# Altium schematic symbol library Linear Technology Power Management Energy Harvesting.SchLib: 169 symbols (part 2 of 13)
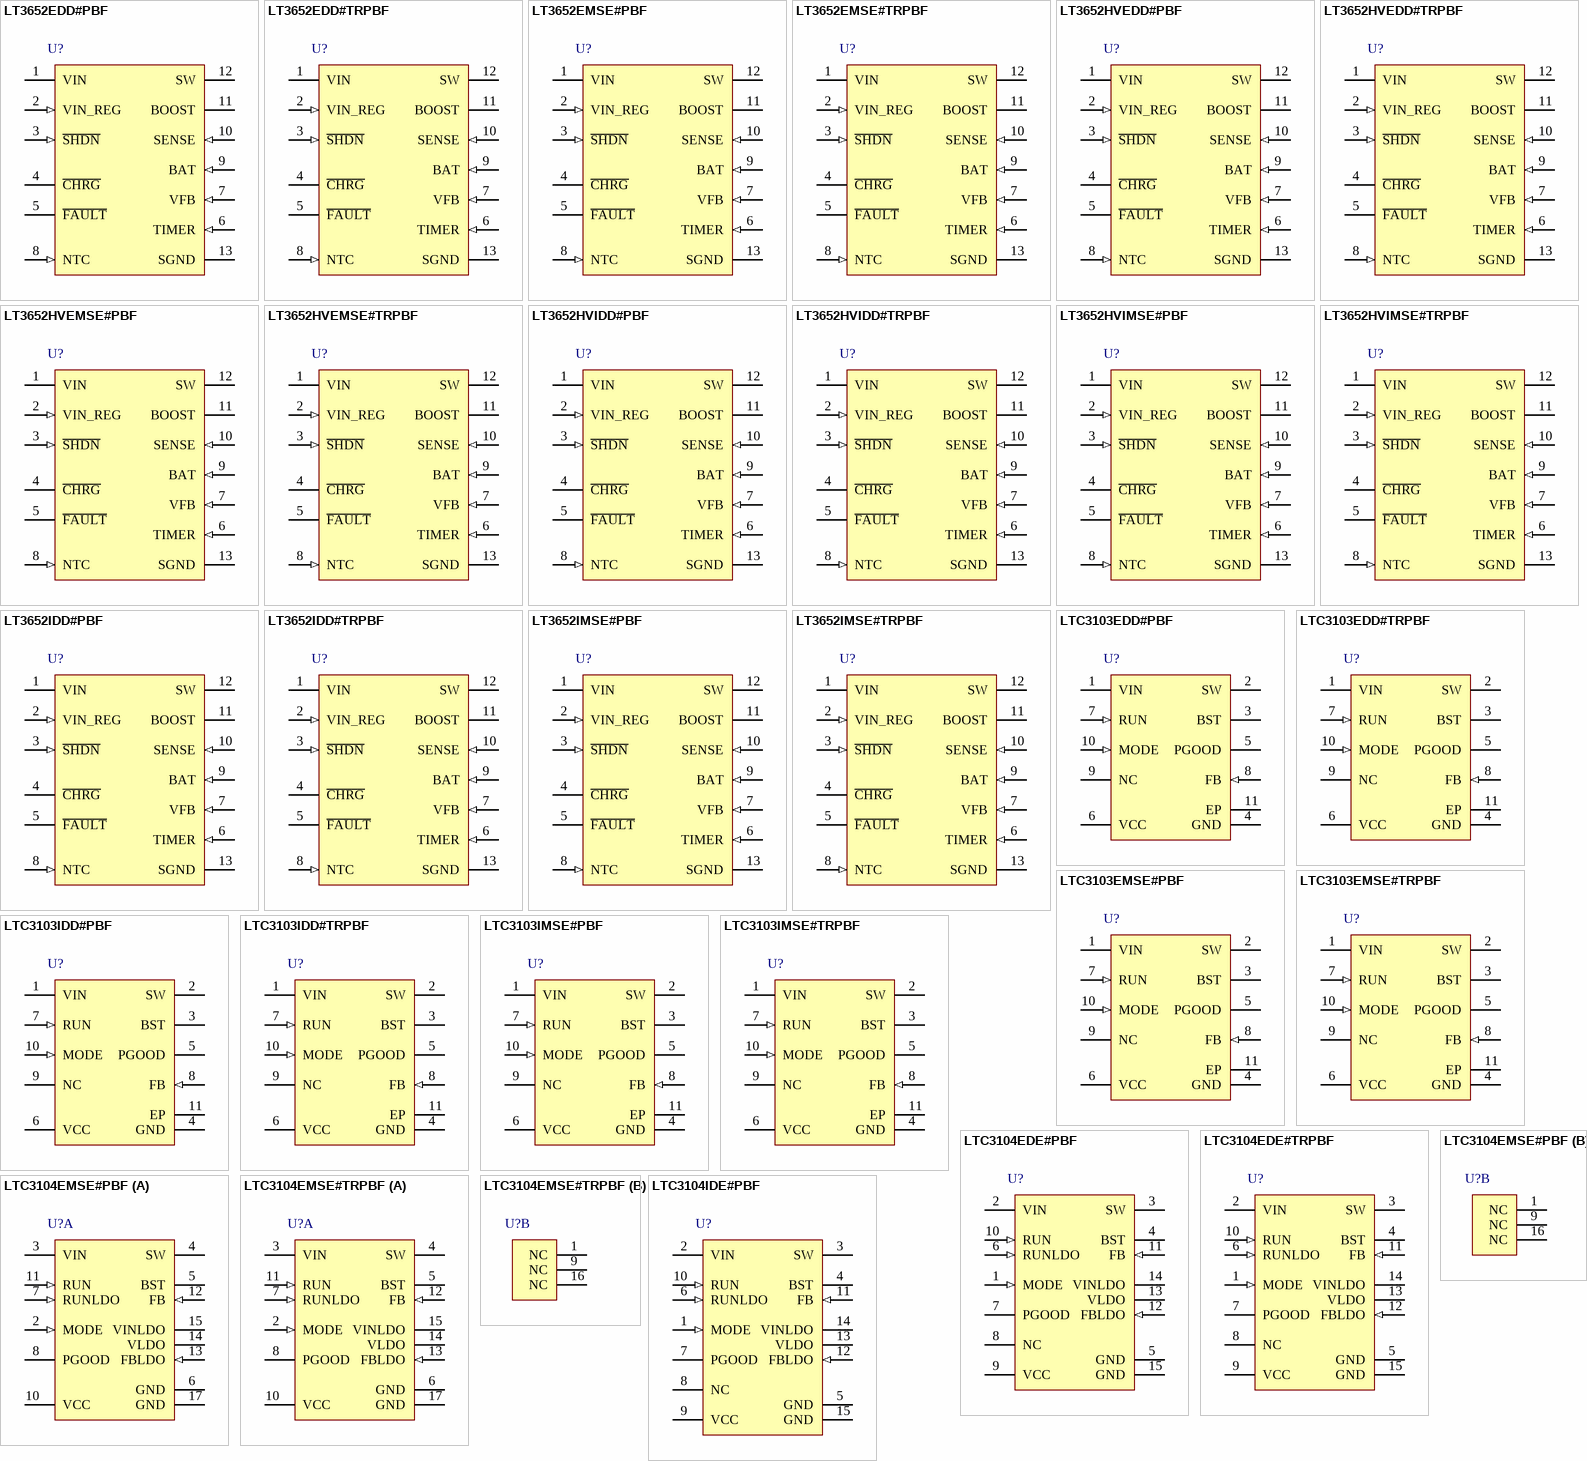
[diagram p6: symbols LT3652EDD#PBF to LTC3104IDE#PBF]

## LT3652HVIMSE#TRPBF
designator U?
Power Tracking 2 A Battery Charger, 12-pin SOP (MSE-12-EDP), -40 to 125 degC, Pb-Free, Tape and Reel; Manufacturer: Linear Technology; PartNumber: LT3652HVIMSE#TRPBF; Energy Source: Solar; Number of Outputs: 1; Topology: Buck; Vin Max(V): 34; Vin Min(V): 4.95; DatasheetVersion: Rev. A; PackageVersion: Rev. G, 05/2013; PackageReference: MSE-12-EDP; PackageDescription: 12-Pin Plastic MSOP, Exposed Die Pad, Body 4.039 x 3 mm, Pitch 0.65 mm; Supplier 1: Digi-Key; Supplier Part Number 1: LT3652HVIMSE#TRPBF-ND; Packing: Tape and Reel; RoHS: TRUE; Mounting Technology: Surface Mount; ComponentLink1Description: Manufacturer URL; ComponentLink1URL: http://www.linear.com/; ComponentLink2Description: Datasheet; ComponentLink2URL: http://cds.linear.com/docs/en/datasheet/3652hvfa.pdf; ComponentLink3Description: Package Specification; ComponentLink3URL: http://cds.linear.com/docs/en/packaging/05081666_G_MSE12.pdf
footprint LT-MSE-12-EDP_N (SOP, 12-Leads, Body 4.1x3.1mm, Pitch 0.65mm, Thermal Pad 2.95x1.76mm, IPC Medium Density)
footprint LT-MSE-12-EDP_L (SOP, 12-Leads, Body 4.1x3.1mm, Pitch 0.65mm, Thermal Pad 2.95x1.76mm, IPC High Density)
footprint LT-MSE-12-EDP_M (SOP, 12-Leads, Body 4.1x3.1mm, Pitch 0.65mm, Thermal Pad 2.95x1.76mm, IPC Low Density)
pins: 1 VIN (power) "Charger Input Supply. VIN operating range is 4.95V to 32V. VIN must be 3.3V greater than the programmed output battery float voltage (VBAT(FLT)) for reliable start-up. (VIN - VBAT(FLT)) >= 0.75V is the minimum operating (See Datasheet)", 2 VIN_REG (in) "Input Voltage Regulation Reference. Maximum charge current is reduced when this pin is below 2.7V. Connecting a resistor divider from VIN to this pin enables programming of minimum operational VIN voltage. This is typically (See Datasheet)", 3 ~{SHDN} (in) "Precision Threshold Shutdown Pin. The enable threshold is 1.2V (rising), with 120mV of input hysteresis. When in shutdown mode, all charging functions are disabled. The precision threshold allows use of the S\H\D\N\ pin to (See Datasheet)", 4 ~{CHRG} (hiz) "Open-Collector Charger Status Output; typically pulled up through a resistor to a reference voltage. This status pin can be pulled up to voltages as high as VIN when disabled, and can sink currents up to 10mA when enabled. (See Datasheet)", 5 ~{FAULT} (hiz) "Open-Collector Charger Status Output; typically pulled up through a resistor to a reference voltage. This status pin can be pulled up to voltages as high as VIN when disabled, and can sink currents up to 10mA when enabled. (See Datasheet)", 6 TIMER (in) "End-Of-Cycle Timer Programming Pin. If a timer-based charge termination is desired, connect a capacitor from this pin to ground. Full charge end-of-cycle time (in hours) is programmed with this capacitor following the (See Datasheet)", 7 VFB (in) "Battery Float Voltage Feedback Reference. The charge function operates to achieve a final float voltage of 3.3V on this pin. Output battery float voltage (VBAT(FLT)) is programmed using a resistor divider. VBAT(FLT) can be (See Datasheet)", 8 NTC (in) "Battery Temperature Monitor Pin. This pin is the input to the NTC (Negative Temperature Coefficient) thermistor temperature monitoring circuit. This function is enabled by connecting a 10kohm, B = 3380 NTC thermistor from (See Datasheet)", 9 BAT (in) "Charger Output Monitor Pin. Connect a 10uF decoupling capacitance (CBAT) to ground. Depending on application requirements, larger value decoupling capacitors may be required. The charge function operates to achieve the (See Datasheet)", 10 SENSE (in) "Charge Current Sense Pin. Connect the inductor sense resistor (RSENSE) from the SENSE pin to the BAT pin. The voltage across this resistor sets the average charge current. The maximum charge current (ICHG(MAX)) corresponds (See Datasheet)", 11 BOOST (power) "Bootstrapped Supply Rail for Switch Drive. This pin facilitates saturation of the switch transistor. Connect a 1uF or greater capacitor from the BOOST pin to the SW pin. Operating range of this pin is 0V to 8.5V, referenced (See Datasheet)", 12 SW (power) "Switch Output Pin. This pin is the output of the charger switch, and corresponds to the emitter of the switch transistor. When enabled, the switch shorts the SW pin to the VIN supply. The drive circuitry for this switch is (See Datasheet)", 13 SGND (power) "Ground Reference and Backside Exposed Lead Frame Thermal Connection. Solder the exposed lead frame to the PCB ground plane."

## LT3652IDD#PBF
designator U?
Power Tracking 2 A Battery Charger for Solar Power, 12-pin SON (DD-12), -40 to 125 degC, Pb-Free; Manufacturer: Linear Technology; PartNumber: LT3652IDD#PBF; Number of Outputs: 1; Vin Max(V): 32; Vin Min(V): 4.95; DatasheetVersion: Rev. D; PackageVersion: Rev. A, 06/2010; PackageReference: DD-12; PackageDescription: 12-Pin Plastic DFN, Body 3 x 3 mm, Pitch 0.45 mm; Supplier 1: Digi-Key; Supplier Part Number 1: LT3652IDD#PBF-ND; Supplier 2: Farnell; Supplier Part Number 2: 2292998; Supplier 3: Newark; Supplier Part Number 3: 13T8472; Energy Source: Solar; RoHS: TRUE; Topology: Battery Charger; Mounting Technology: Surface Mount; ComponentLink1Description: Manufacturer URL; ComponentLink1URL: http://www.linear.com/; ComponentLink2Description: Datasheet; ComponentLink2URL: http://cds.linear.com/docs/en/datasheet/3652fd.pdf; ComponentLink3Description: Package Specification; ComponentLink3URL: http://cds.linear.com/docs/en/packaging/DFN_12_05-08-1725.pdf
footprint LT-DD-12_V (SON, 12-Leads, Body 3x3mm, Pitch 0.45mm, Thermal Pad 2.38x1.65mm)
pins: 1 VIN (power) "Charger Input Supply. VIN operating range is 4.95V to 32V. VIN must be 3.3V greater than the programmed output battery float voltage (VBAT(FLT)) for reliable start-up. (VIN - VBAT(FLT)) >= 0.75V is the minimum operating (See Datasheet)", 2 VIN_REG (in) "Input Voltage Regulation Reference. Maximum charge current is reduced when this pin is below 2.7V. Connecting a resistor divider from VIN to this pin enables programming of minimum operational VIN voltage. This is typically (See Datasheet)", 3 ~{SHDN} (in) "Precision Threshold Shutdown Pin. The enable threshold is 1.2V (rising), with 120mV of input hysteresis. When in shutdown mode, all charging functions are disabled. The precision threshold allows use of the S\H\D\N\ pin to (See Datasheet)", 4 ~{CHRG} (hiz) "Open-Collector Charger Status Output; typically pulled up through a resistor to a reference voltage. This status pin can be pulled up to voltages as high as VIN when disabled, and can sink currents up to 10mA when enabled. (See Datasheet)", 5 ~{FAULT} (hiz) "Open-Collector Charger Status Output; typically pulled up through a resistor to a reference voltage. This status pin can be pulled up to voltages as high as VIN when disabled, and can sink currents up to 10mA when enabled. (See Datasheet)", 6 TIMER (in) "End-Of-Cycle Timer Programming Pin. If a timer-based charge termination is desired, connect a capacitor from this pin to ground. Full charge end-of-cycle time (in hours) is programmed with this capacitor following the (See Datasheet)", 7 VFB (in) "Battery Float Voltage Feedback Reference. The charge function operates to achieve a final float voltage of 3.3V on this pin. Output battery float voltage (VBAT(FLT)) is programmed using a resistor divider. VBAT(FLT) can be (See Datasheet)", 8 NTC (in) "Battery Temperature Monitor Pin. This pin is the input to the NTC (Negative Temperature Coefficient) thermistor temperature monitoring circuit. This function is enabled by connecting a 10kohm, B = 3380 NTC thermistor from (See Datasheet)", 9 BAT (in) "Charger Output Monitor Pin. Connect a 10uF decoupling capacitance (CBAT) to ground. Depending on application requirements, larger value decoupling capacitors may be required. The charge function operates to achieve the (See Datasheet)", 10 SENSE (in) "Charge Current Sense Pin. Connect the inductor sense resistor (RSENSE) from the SENSE pin to the BAT pin. The voltage across this resistor sets the average charge current. The maximum charge current (ICHG(MAX)) corresponds (See Datasheet)", 11 BOOST (power) "Bootstrapped Supply Rail for Switch Drive. This pin facilitates saturation of the switch transistor. Connect a 1uF or greater capacitor from the BOOST pin to the SW pin. Operating range of this pin is 0V to 8.5V, referenced (See Datasheet)", 12 SW (power) "Switch Output Pin. This pin is the output of the charger switch, and corresponds to the emitter of the switch transistor. When enabled, the switch shorts the SW pin to the VIN supply. The drive circuitry for this switch is (See Datasheet)", 13 SGND (power) "Ground Reference and Backside Exposed Lead Frame Thermal Connection. Solder the exposed lead frame to the PCB ground plane."

## LT3652IDD#TRPBF
designator U?
Power Tracking 2 A Battery Charger for Solar Power, 12-pin SON (DD-12), -40 to 125 degC, Pb-Free, Tape and Reel; Manufacturer: Linear Technology; PartNumber: LT3652IDD#TRPBF; Number of Outputs: 1; Vin Max(V): 32; Vin Min(V): 4.95; DatasheetVersion: Rev. D; PackageVersion: Rev. A, 06/2010; PackageReference: DD-12; PackageDescription: 12-Pin Plastic DFN, Body 3 x 3 mm, Pitch 0.45 mm; Supplier 1: Digi-Key; Supplier Part Number 1: LT3652IDD#TRPBF-ND; Energy Source: Solar; Packing: Tape and Reel; RoHS: TRUE; Topology: Battery Charger; Mounting Technology: Surface Mount; ComponentLink1Description: Manufacturer URL; ComponentLink1URL: http://www.linear.com/; ComponentLink2Description: Datasheet; ComponentLink2URL: http://cds.linear.com/docs/en/datasheet/3652fd.pdf; ComponentLink3Description: Package Specification; ComponentLink3URL: http://cds.linear.com/docs/en/packaging/DFN_12_05-08-1725.pdf
footprint LT-DD-12_V (SON, 12-Leads, Body 3x3mm, Pitch 0.45mm, Thermal Pad 2.38x1.65mm)
pins: 1 VIN (power) "Charger Input Supply. VIN operating range is 4.95V to 32V. VIN must be 3.3V greater than the programmed output battery float voltage (VBAT(FLT)) for reliable start-up. (VIN - VBAT(FLT)) >= 0.75V is the minimum operating (See Datasheet)", 2 VIN_REG (in) "Input Voltage Regulation Reference. Maximum charge current is reduced when this pin is below 2.7V. Connecting a resistor divider from VIN to this pin enables programming of minimum operational VIN voltage. This is typically (See Datasheet)", 3 ~{SHDN} (in) "Precision Threshold Shutdown Pin. The enable threshold is 1.2V (rising), with 120mV of input hysteresis. When in shutdown mode, all charging functions are disabled. The precision threshold allows use of the S\H\D\N\ pin to (See Datasheet)", 4 ~{CHRG} (hiz) "Open-Collector Charger Status Output; typically pulled up through a resistor to a reference voltage. This status pin can be pulled up to voltages as high as VIN when disabled, and can sink currents up to 10mA when enabled. (See Datasheet)", 5 ~{FAULT} (hiz) "Open-Collector Charger Status Output; typically pulled up through a resistor to a reference voltage. This status pin can be pulled up to voltages as high as VIN when disabled, and can sink currents up to 10mA when enabled. (See Datasheet)", 6 TIMER (in) "End-Of-Cycle Timer Programming Pin. If a timer-based charge termination is desired, connect a capacitor from this pin to ground. Full charge end-of-cycle time (in hours) is programmed with this capacitor following the (See Datasheet)", 7 VFB (in) "Battery Float Voltage Feedback Reference. The charge function operates to achieve a final float voltage of 3.3V on this pin. Output battery float voltage (VBAT(FLT)) is programmed using a resistor divider. VBAT(FLT) can be (See Datasheet)", 8 NTC (in) "Battery Temperature Monitor Pin. This pin is the input to the NTC (Negative Temperature Coefficient) thermistor temperature monitoring circuit. This function is enabled by connecting a 10kohm, B = 3380 NTC thermistor from (See Datasheet)", 9 BAT (in) "Charger Output Monitor Pin. Connect a 10uF decoupling capacitance (CBAT) to ground. Depending on application requirements, larger value decoupling capacitors may be required. The charge function operates to achieve the (See Datasheet)", 10 SENSE (in) "Charge Current Sense Pin. Connect the inductor sense resistor (RSENSE) from the SENSE pin to the BAT pin. The voltage across this resistor sets the average charge current. The maximum charge current (ICHG(MAX)) corresponds (See Datasheet)", 11 BOOST (power) "Bootstrapped Supply Rail for Switch Drive. This pin facilitates saturation of the switch transistor. Connect a 1uF or greater capacitor from the BOOST pin to the SW pin. Operating range of this pin is 0V to 8.5V, referenced (See Datasheet)", 12 SW (power) "Switch Output Pin. This pin is the output of the charger switch, and corresponds to the emitter of the switch transistor. When enabled, the switch shorts the SW pin to the VIN supply. The drive circuitry for this switch is (See Datasheet)", 13 SGND (power) "Ground Reference and Backside Exposed Lead Frame Thermal Connection. Solder the exposed lead frame to the PCB ground plane."

## LT3652IMSE#PBF
designator U?
Power Tracking 2 A Battery Charger for Solar Power, 12-pin SOP (MSE-12-EDP), -40 to 125 degC, Pb-Free; Manufacturer: Linear Technology; PartNumber: LT3652IMSE#PBF; Number of Outputs: 1; Vin Max(V): 32; Vin Min(V): 4.95; DatasheetVersion: Rev. D; PackageVersion: Rev. G, 05/2013; PackageReference: MSE-12-EDP; PackageDescription: 12-Pin Plastic MSOP, Exposed Die Pad, Body 4.039 x 3 mm, Pitch 0.65 mm; Supplier 1: Digi-Key; Supplier Part Number 1: LT3652IMSE#PBF-ND; Energy Source: Solar; RoHS: TRUE; Topology: Battery Charger; Mounting Technology: Surface Mount; ComponentLink1Description: Manufacturer URL; ComponentLink1URL: http://www.linear.com/; ComponentLink2Description: Datasheet; ComponentLink2URL: http://cds.linear.com/docs/en/datasheet/3652fd.pdf; ComponentLink3Description: Package Specification; ComponentLink3URL: http://cds.linear.com/docs/en/packaging/05081666_G_MSE12.pdf
footprint LT-MSE-12-EDP_N (SOP, 12-Leads, Body 4.1x3.1mm, Pitch 0.65mm, Thermal Pad 2.95x1.76mm, IPC Medium Density)
footprint LT-MSE-12-EDP_L (SOP, 12-Leads, Body 4.1x3.1mm, Pitch 0.65mm, Thermal Pad 2.95x1.76mm, IPC High Density)
footprint LT-MSE-12-EDP_M (SOP, 12-Leads, Body 4.1x3.1mm, Pitch 0.65mm, Thermal Pad 2.95x1.76mm, IPC Low Density)
pins: 1 VIN (power) "Charger Input Supply. VIN operating range is 4.95V to 32V. VIN must be 3.3V greater than the programmed output battery float voltage (VBAT(FLT)) for reliable start-up. (VIN - VBAT(FLT)) >= 0.75V is the minimum operating (See Datasheet)", 2 VIN_REG (in) "Input Voltage Regulation Reference. Maximum charge current is reduced when this pin is below 2.7V. Connecting a resistor divider from VIN to this pin enables programming of minimum operational VIN voltage. This is typically (See Datasheet)", 3 ~{SHDN} (in) "Precision Threshold Shutdown Pin. The enable threshold is 1.2V (rising), with 120mV of input hysteresis. When in shutdown mode, all charging functions are disabled. The precision threshold allows use of the S\H\D\N\ pin to (See Datasheet)", 4 ~{CHRG} (hiz) "Open-Collector Charger Status Output; typically pulled up through a resistor to a reference voltage. This status pin can be pulled up to voltages as high as VIN when disabled, and can sink currents up to 10mA when enabled. (See Datasheet)", 5 ~{FAULT} (hiz) "Open-Collector Charger Status Output; typically pulled up through a resistor to a reference voltage. This status pin can be pulled up to voltages as high as VIN when disabled, and can sink currents up to 10mA when enabled. (See Datasheet)", 6 TIMER (in) "End-Of-Cycle Timer Programming Pin. If a timer-based charge termination is desired, connect a capacitor from this pin to ground. Full charge end-of-cycle time (in hours) is programmed with this capacitor following the (See Datasheet)", 7 VFB (in) "Battery Float Voltage Feedback Reference. The charge function operates to achieve a final float voltage of 3.3V on this pin. Output battery float voltage (VBAT(FLT)) is programmed using a resistor divider. VBAT(FLT) can be (See Datasheet)", 8 NTC (in) "Battery Temperature Monitor Pin. This pin is the input to the NTC (Negative Temperature Coefficient) thermistor temperature monitoring circuit. This function is enabled by connecting a 10kohm, B = 3380 NTC thermistor from (See Datasheet)", 9 BAT (in) "Charger Output Monitor Pin. Connect a 10uF decoupling capacitance (CBAT) to ground. Depending on application requirements, larger value decoupling capacitors may be required. The charge function operates to achieve the (See Datasheet)", 10 SENSE (in) "Charge Current Sense Pin. Connect the inductor sense resistor (RSENSE) from the SENSE pin to the BAT pin. The voltage across this resistor sets the average charge current. The maximum charge current (ICHG(MAX)) corresponds (See Datasheet)", 11 BOOST (power) "Bootstrapped Supply Rail for Switch Drive. This pin facilitates saturation of the switch transistor. Connect a 1uF or greater capacitor from the BOOST pin to the SW pin. Operating range of this pin is 0V to 8.5V, referenced (See Datasheet)", 12 SW (power) "Switch Output Pin. This pin is the output of the charger switch, and corresponds to the emitter of the switch transistor. When enabled, the switch shorts the SW pin to the VIN supply. The drive circuitry for this switch is (See Datasheet)", 13 SGND (power) "Ground Reference and Backside Exposed Lead Frame Thermal Connection. Solder the exposed lead frame to the PCB ground plane."

## LT3652IMSE#TRPBF
designator U?
Power Tracking 2 A Battery Charger for Solar Power, 12-pin SOP (MSE-12-EDP), -40 to 125 degC, Pb-Free, Tape and Reel; Manufacturer: Linear Technology; PartNumber: LT3652IMSE#TRPBF; Number of Outputs: 1; Vin Max(V): 32; Vin Min(V): 4.95; DatasheetVersion: Rev. D; PackageVersion: Rev. G, 05/2013; PackageReference: MSE-12-EDP; PackageDescription: 12-Pin Plastic MSOP, Exposed Die Pad, Body 4.039 x 3 mm, Pitch 0.65 mm; Supplier 1: Digi-Key; Supplier Part Number 1: LT3652IMSE#TRPBF-ND; Supplier 2: Newark; Supplier Part Number 2: 64R8542; Energy Source: Solar; Packing: Tape and Reel; RoHS: TRUE; Topology: Battery Charger; Mounting Technology: Surface Mount; ComponentLink1Description: Manufacturer URL; ComponentLink1URL: http://www.linear.com/; ComponentLink2Description: Datasheet; ComponentLink2URL: http://cds.linear.com/docs/en/datasheet/3652fd.pdf; ComponentLink3Description: Package Specification; ComponentLink3URL: http://cds.linear.com/docs/en/packaging/05081666_G_MSE12.pdf
footprint LT-MSE-12-EDP_N (SOP, 12-Leads, Body 4.1x3.1mm, Pitch 0.65mm, Thermal Pad 2.95x1.76mm, IPC Medium Density)
footprint LT-MSE-12-EDP_L (SOP, 12-Leads, Body 4.1x3.1mm, Pitch 0.65mm, Thermal Pad 2.95x1.76mm, IPC High Density)
footprint LT-MSE-12-EDP_M (SOP, 12-Leads, Body 4.1x3.1mm, Pitch 0.65mm, Thermal Pad 2.95x1.76mm, IPC Low Density)
pins: 1 VIN (power) "Charger Input Supply. VIN operating range is 4.95V to 32V. VIN must be 3.3V greater than the programmed output battery float voltage (VBAT(FLT)) for reliable start-up. (VIN - VBAT(FLT)) >= 0.75V is the minimum operating (See Datasheet)", 2 VIN_REG (in) "Input Voltage Regulation Reference. Maximum charge current is reduced when this pin is below 2.7V. Connecting a resistor divider from VIN to this pin enables programming of minimum operational VIN voltage. This is typically (See Datasheet)", 3 ~{SHDN} (in) "Precision Threshold Shutdown Pin. The enable threshold is 1.2V (rising), with 120mV of input hysteresis. When in shutdown mode, all charging functions are disabled. The precision threshold allows use of the S\H\D\N\ pin to (See Datasheet)", 4 ~{CHRG} (hiz) "Open-Collector Charger Status Output; typically pulled up through a resistor to a reference voltage. This status pin can be pulled up to voltages as high as VIN when disabled, and can sink currents up to 10mA when enabled. (See Datasheet)", 5 ~{FAULT} (hiz) "Open-Collector Charger Status Output; typically pulled up through a resistor to a reference voltage. This status pin can be pulled up to voltages as high as VIN when disabled, and can sink currents up to 10mA when enabled. (See Datasheet)", 6 TIMER (in) "End-Of-Cycle Timer Programming Pin. If a timer-based charge termination is desired, connect a capacitor from this pin to ground. Full charge end-of-cycle time (in hours) is programmed with this capacitor following the (See Datasheet)", 7 VFB (in) "Battery Float Voltage Feedback Reference. The charge function operates to achieve a final float voltage of 3.3V on this pin. Output battery float voltage (VBAT(FLT)) is programmed using a resistor divider. VBAT(FLT) can be (See Datasheet)", 8 NTC (in) "Battery Temperature Monitor Pin. This pin is the input to the NTC (Negative Temperature Coefficient) thermistor temperature monitoring circuit. This function is enabled by connecting a 10kohm, B = 3380 NTC thermistor from (See Datasheet)", 9 BAT (in) "Charger Output Monitor Pin. Connect a 10uF decoupling capacitance (CBAT) to ground. Depending on application requirements, larger value decoupling capacitors may be required. The charge function operates to achieve the (See Datasheet)", 10 SENSE (in) "Charge Current Sense Pin. Connect the inductor sense resistor (RSENSE) from the SENSE pin to the BAT pin. The voltage across this resistor sets the average charge current. The maximum charge current (ICHG(MAX)) corresponds (See Datasheet)", 11 BOOST (power) "Bootstrapped Supply Rail for Switch Drive. This pin facilitates saturation of the switch transistor. Connect a 1uF or greater capacitor from the BOOST pin to the SW pin. Operating range of this pin is 0V to 8.5V, referenced (See Datasheet)", 12 SW (power) "Switch Output Pin. This pin is the output of the charger switch, and corresponds to the emitter of the switch transistor. When enabled, the switch shorts the SW pin to the VIN supply. The drive circuitry for this switch is (See Datasheet)", 13 SGND (power) "Ground Reference and Backside Exposed Lead Frame Thermal Connection. Solder the exposed lead frame to the PCB ground plane."

## LTC3103EDD#PBF
designator U?
1.8 uA Quiescent Current, 15 V, 300 mA Synchronous Step-Down DC/DC Converter, 0.0018 mA Isupply, 10-pin SON (DD-10), -40 to 125 degC, Pb-Free; Manufacturer: Linear Technology; PartNumber: LTC3103EDD#PBF; Number of Outputs: 1; Topology: Buck; Vin Max(V): 15; Vin Min(V): 2.5; Vout Max(V): 13.8; PackageVersion: Rev. C, 06/2010; PackageReference: DD-10; PackageDescription: 10-Pin Plastic DFN, Body 3 x 3 mm, Pitch 0.5 mm; Supplier 1: Digi-Key; Supplier Part Number 1: LTC3103EDD#PBF-ND; Supplier 2: Newark; Supplier Part Number 2: 78T3141; RoHS: TRUE; Mounting Technology: Surface Mount; Code_JEDEC: MO-229; ComponentLink1Description: Manufacturer URL; ComponentLink1URL: http://www.linear.com/; ComponentLink2Description: Datasheet; ComponentLink2URL: http://cds.linear.com/docs/en/datasheet/3103f.pdf; ComponentLink3Description: Package Specification; ComponentLink3URL: http://cds.linear.com/docs/en/packaging/DFN_10_05-08-1699.pdf
footprint LT-DD-10_V (SON, 10-Leads, Body 3x3mm, Pitch 0.5mm, Thermal Pad 2.38x1.65mm)
pins: 1 VIN (power) "VIN (Pin 1): Main Supply Pin. Decouple with a 10uF or larger ceramic capacitor. The capacitor should be as close to the part as possible.", 2 SW (power) "SW (Pin 2): Switch Pin Connects to the Inductor. This pin connects to the drains of the internal main and synchronous power MOSFET switches.", 3 BST "BST (Pin 3): Bootstrapped Floating Supply for the High Side Gate Drive. Connect to SW through a 22nF (minimum) capacitor. The capacitor must be connected between BST and SW and be located as close as possible to the part as (See Datasheet)", 4 GND (power) "GND (Pin 4): Power Ground.", 5 PGOOD (oc) "PGOOD (Pin 5): Open-drain output that is pulled to ground when the feedback voltage falls 10% (typical) below the regulation point, during a thermal shutdown event or if the converter is disabled. The PGOOD output is valid (See Datasheet)", 6 VCC (power) "VCC (Pin 6): Internally Regulated Supply Rail. Internal power rail regulated off of VIN to power control circuitry. Decouple with a 1uF or larger ceramic capacitor placed as close to the part as possible.", 7 RUN (in) "RUN (Pin 7): Run Pin Comparator Input. A voltage greater than 0.84V will enable the IC. Tie this pin to VIN to enable the IC or connect to an external resistor divider from VIN to provide an accurate undervoltage lockout (See Datasheet)", 8 FB (in) "FB (Pin 8): Feedback Input to Error Amplifier. The resistor divider connected to this pin sets the buck converter output voltage.", 9 NC "NC (Pin 9): No Connect Pin Must be Tied to GND.", 10 MODE (in) "MODE (Pin 10): Logic-Controlled Input to Select Mode of Operation. Forcing this pin high commands high efficiency automatic Burst Mode operation where the buck will automatically transition from PWM operation at heavy load (See Datasheet)", 11 EP (power) "GND (Exposed Pad Pin 11): Backpad Ground Common. This pad must be soldered to the PC board and connected to the ground plane for optimal thermal performance."

## LTC3103EDD#TRPBF
designator U?
1.8 uA Quiescent Current, 15 V, 300 mA Synchronous Step-Down DC/DC Converter, 0.0018 mA Isupply, 10-pin SON (DD-10), -40 to 125 degC, Pb-Free, Tape and Reel; Manufacturer: Linear Technology; PartNumber: LTC3103EDD#TRPBF; Number of Outputs: 1; Topology: Buck; Vin Max(V): 15; Vin Min(V): 2.5; Vout Max(V): 13.8; PackageVersion: Rev. C, 06/2010; PackageReference: DD-10; PackageDescription: 10-Pin Plastic DFN, Body 3 x 3 mm, Pitch 0.5 mm; Supplier 1: Digi-Key; Supplier Part Number 1: LTC3103EDD#TRPBF-ND; Supplier 2: Newark; Supplier Part Number 2: 78T3142; Packing: Tape and Reel; RoHS: TRUE; Mounting Technology: Surface Mount; Code_JEDEC: MO-229; ComponentLink1Description: Manufacturer URL; ComponentLink1URL: http://www.linear.com/; ComponentLink2Description: Datasheet; ComponentLink2URL: http://cds.linear.com/docs/en/datasheet/3103f.pdf; ComponentLink3Description: Package Specification; ComponentLink3URL: http://cds.linear.com/docs/en/packaging/DFN_10_05-08-1699.pdf
footprint LT-DD-10_V (SON, 10-Leads, Body 3x3mm, Pitch 0.5mm, Thermal Pad 2.38x1.65mm)
pins: 1 VIN (power) "VIN (Pin 1): Main Supply Pin. Decouple with a 10uF or larger ceramic capacitor. The capacitor should be as close to the part as possible.", 2 SW (power) "SW (Pin 2): Switch Pin Connects to the Inductor. This pin connects to the drains of the internal main and synchronous power MOSFET switches.", 3 BST "BST (Pin 3): Bootstrapped Floating Supply for the High Side Gate Drive. Connect to SW through a 22nF (minimum) capacitor. The capacitor must be connected between BST and SW and be located as close as possible to the part as (See Datasheet)", 4 GND (power) "GND (Pin 4): Power Ground.", 5 PGOOD (oc) "PGOOD (Pin 5): Open-drain output that is pulled to ground when the feedback voltage falls 10% (typical) below the regulation point, during a thermal shutdown event or if the converter is disabled. The PGOOD output is valid (See Datasheet)", 6 VCC (power) "VCC (Pin 6): Internally Regulated Supply Rail. Internal power rail regulated off of VIN to power control circuitry. Decouple with a 1uF or larger ceramic capacitor placed as close to the part as possible.", 7 RUN (in) "RUN (Pin 7): Run Pin Comparator Input. A voltage greater than 0.84V will enable the IC. Tie this pin to VIN to enable the IC or connect to an external resistor divider from VIN to provide an accurate undervoltage lockout (See Datasheet)", 8 FB (in) "FB (Pin 8): Feedback Input to Error Amplifier. The resistor divider connected to this pin sets the buck converter output voltage.", 9 NC "NC (Pin 9): No Connect Pin Must be Tied to GND.", 10 MODE (in) "MODE (Pin 10): Logic-Controlled Input to Select Mode of Operation. Forcing this pin high commands high efficiency automatic Burst Mode operation where the buck will automatically transition from PWM operation at heavy load (See Datasheet)", 11 EP (power) "GND (Exposed Pad Pin 11): Backpad Ground Common. This pad must be soldered to the PC board and connected to the ground plane for optimal thermal performance."

## LTC3103EMSE#PBF
designator U?
1.8 uA Quiescent Current, 15 V, 300 mA Synchronous Step-Down DC/DC Converter, 0.0018 mA Isupply, 10-pin SOP (MSE-10-EDP), -40 to 125 degC, Pb-Free; Manufacturer: Linear Technology; PartNumber: LTC3103EMSE#PBF; Number of Outputs: 1; Topology: Buck; Vin Max(V): 15; Vin Min(V): 2.5; Vout Max(V): 13.8; PackageVersion: Rev. I, 05/2013; PackageReference: MSE-10; PackageDescription: 10-Pin Plastic MSOP, Exposed Die Pad, Body 3 x 3 mm, Pitch 0.5 mm; Supplier 1: Digi-Key; Supplier Part Number 1: LTC3103EMSE#PBF-ND; Supplier 2: Farnell; Supplier Part Number 2: 2082298; Supplier 3: Newark; Supplier Part Number 3: 78T3143; RoHS: TRUE; Mounting Technology: Surface Mount; ComponentLink1Description: Manufacturer URL; ComponentLink1URL: http://www.linear.com/; ComponentLink2Description: Datasheet; ComponentLink2URL: http://cds.linear.com/docs/en/datasheet/3103f.pdf; ComponentLink3Description: Package Specification; ComponentLink3URL: http://cds.linear.com/docs/en/packaging/05081664_I_MSE.pdf
footprint LT-MSE-10-EDP_N (SOP, 10-Leads, Body 3.1x3.1mm, Pitch 0.5mm, Thermal Pad 1.88x1.68mm, IPC Medium Density)
footprint LT-MSE-10-EDP_L (SOP, 10-Leads, Body 3.1x3.1mm, Pitch 0.5mm, Thermal Pad 1.88x1.68mm, IPC High Density)
footprint LT-MSE-10-EDP_M (SOP, 10-Leads, Body 3.1x3.1mm, Pitch 0.5mm, Thermal Pad 1.88x1.68mm, IPC Low Density)
pins: 1 VIN (power) "VIN (Pin 1): Main Supply Pin. Decouple with a 10uF or larger ceramic capacitor. The capacitor should be as close to the part as possible.", 2 SW (power) "SW (Pin 2): Switch Pin Connects to the Inductor. This pin connects to the drains of the internal main and synchronous power MOSFET switches.", 3 BST "BST (Pin 3): Bootstrapped Floating Supply for the High Side Gate Drive. Connect to SW through a 22nF (minimum) capacitor. The capacitor must be connected between BST and SW and be located as close as possible to the part as (See Datasheet)", 4 GND (power) "GND (Pin 4): Power Ground.", 5 PGOOD (oc) "PGOOD (Pin 5): Open-drain output that is pulled to ground when the feedback voltage falls 10% (typical) below the regulation point, during a thermal shutdown event or if the converter is disabled. The PGOOD output is valid (See Datasheet)", 6 VCC (power) "VCC (Pin 6): Internally Regulated Supply Rail. Internal power rail regulated off of VIN to power control circuitry. Decouple with a 1uF or larger ceramic capacitor placed as close to the part as possible.", 7 RUN (in) "RUN (Pin 7): Run Pin Comparator Input. A voltage greater than 0.84V will enable the IC. Tie this pin to VIN to enable the IC or connect to an external resistor divider from VIN to provide an accurate undervoltage lockout (See Datasheet)", 8 FB (in) "FB (Pin 8): Feedback Input to Error Amplifier. The resistor divider connected to this pin sets the buck converter output voltage.", 9 NC "NC (Pin 9): No Connect Pin Must be Tied to GND.", 10 MODE (in) "MODE (Pin 10): Logic-Controlled Input to Select Mode of Operation. Forcing this pin high commands high efficiency automatic Burst Mode operation where the buck will automatically transition from PWM operation at heavy load (See Datasheet)", 11 EP (power) "GND (Exposed Pad Pin 11): Backpad Ground Common. This pad must be soldered to the PC board and connected to the ground plane for optimal thermal performance."

## LTC3103EMSE#TRPBF
designator U?
1.8 uA Quiescent Current, 15 V, 300 mA Synchronous Step-Down DC/DC Converter, 0.0018 mA Isupply, 10-pin SOP (MSE-10-EDP), -40 to 125 degC, Pb-Free, Tape and Reel; Manufacturer: Linear Technology; PartNumber: LTC3103EMSE#TRPBF; Number of Outputs: 1; Topology: Buck; Vin Max(V): 15; Vin Min(V): 2.5; Vout Max(V): 13.8; PackageVersion: Rev. I, 05/2013; PackageReference: MSE-10; PackageDescription: 10-Pin Plastic MSOP, Exposed Die Pad, Body 3 x 3 mm, Pitch 0.5 mm; Supplier 1: Digi-Key; Supplier Part Number 1: LTC3103EMSE#TRPBF-ND; Packing: Tape and Reel; RoHS: TRUE; Mounting Technology: Surface Mount; ComponentLink1Description: Manufacturer URL; ComponentLink1URL: http://www.linear.com/; ComponentLink2Description: Datasheet; ComponentLink2URL: http://cds.linear.com/docs/en/datasheet/3103f.pdf; ComponentLink3Description: Package Specification; ComponentLink3URL: http://cds.linear.com/docs/en/packaging/05081664_I_MSE.pdf
footprint LT-MSE-10-EDP_N (SOP, 10-Leads, Body 3.1x3.1mm, Pitch 0.5mm, Thermal Pad 1.88x1.68mm, IPC Medium Density)
footprint LT-MSE-10-EDP_L (SOP, 10-Leads, Body 3.1x3.1mm, Pitch 0.5mm, Thermal Pad 1.88x1.68mm, IPC High Density)
footprint LT-MSE-10-EDP_M (SOP, 10-Leads, Body 3.1x3.1mm, Pitch 0.5mm, Thermal Pad 1.88x1.68mm, IPC Low Density)
pins: 1 VIN (power) "VIN (Pin 1): Main Supply Pin. Decouple with a 10uF or larger ceramic capacitor. The capacitor should be as close to the part as possible.", 2 SW (power) "SW (Pin 2): Switch Pin Connects to the Inductor. This pin connects to the drains of the internal main and synchronous power MOSFET switches.", 3 BST "BST (Pin 3): Bootstrapped Floating Supply for the High Side Gate Drive. Connect to SW through a 22nF (minimum) capacitor. The capacitor must be connected between BST and SW and be located as close as possible to the part as (See Datasheet)", 4 GND (power) "GND (Pin 4): Power Ground.", 5 PGOOD (oc) "PGOOD (Pin 5): Open-drain output that is pulled to ground when the feedback voltage falls 10% (typical) below the regulation point, during a thermal shutdown event or if the converter is disabled. The PGOOD output is valid (See Datasheet)", 6 VCC (power) "VCC (Pin 6): Internally Regulated Supply Rail. Internal power rail regulated off of VIN to power control circuitry. Decouple with a 1uF or larger ceramic capacitor placed as close to the part as possible.", 7 RUN (in) "RUN (Pin 7): Run Pin Comparator Input. A voltage greater than 0.84V will enable the IC. Tie this pin to VIN to enable the IC or connect to an external resistor divider from VIN to provide an accurate undervoltage lockout (See Datasheet)", 8 FB (in) "FB (Pin 8): Feedback Input to Error Amplifier. The resistor divider connected to this pin sets the buck converter output voltage.", 9 NC "NC (Pin 9): No Connect Pin Must be Tied to GND.", 10 MODE (in) "MODE (Pin 10): Logic-Controlled Input to Select Mode of Operation. Forcing this pin high commands high efficiency automatic Burst Mode operation where the buck will automatically transition from PWM operation at heavy load (See Datasheet)", 11 EP (power) "GND (Exposed Pad Pin 11): Backpad Ground Common. This pad must be soldered to the PC board and connected to the ground plane for optimal thermal performance."

## LTC3103IDD#PBF
designator U?
1.8 uA Quiescent Current, 15 V, 300 mA Synchronous Step-Down DC/DC Converter, 0.0018 mA Isupply, 10-pin SON (DD-10), -40 to 125 degC, Pb-Free; Manufacturer: Linear Technology; PartNumber: LTC3103IDD#PBF; Number of Outputs: 1; Topology: Buck; Vin Max(V): 15; Vin Min(V): 2.5; Vout Max(V): 13.8; PackageVersion: Rev. C, 06/2010; PackageReference: DD-10; PackageDescription: 10-Pin Plastic DFN, Body 3 x 3 mm, Pitch 0.5 mm; Supplier 1: Digi-Key; Supplier Part Number 1: LTC3103IDD#PBF-ND; Supplier 2: Newark; Supplier Part Number 2: 78T3145; RoHS: TRUE; Mounting Technology: Surface Mount; Code_JEDEC: MO-229; ComponentLink1Description: Manufacturer URL; ComponentLink1URL: http://www.linear.com/; ComponentLink2Description: Datasheet; ComponentLink2URL: http://cds.linear.com/docs/en/datasheet/3103f.pdf; ComponentLink3Description: Package Specification; ComponentLink3URL: http://cds.linear.com/docs/en/packaging/DFN_10_05-08-1699.pdf
footprint LT-DD-10_V (SON, 10-Leads, Body 3x3mm, Pitch 0.5mm, Thermal Pad 2.38x1.65mm)
pins: 1 VIN (power) "VIN (Pin 1): Main Supply Pin. Decouple with a 10uF or larger ceramic capacitor. The capacitor should be as close to the part as possible.", 2 SW (power) "SW (Pin 2): Switch Pin Connects to the Inductor. This pin connects to the drains of the internal main and synchronous power MOSFET switches.", 3 BST "BST (Pin 3): Bootstrapped Floating Supply for the High Side Gate Drive. Connect to SW through a 22nF (minimum) capacitor. The capacitor must be connected between BST and SW and be located as close as possible to the part as (See Datasheet)", 4 GND (power) "GND (Pin 4): Power Ground.", 5 PGOOD (oc) "PGOOD (Pin 5): Open-drain output that is pulled to ground when the feedback voltage falls 10% (typical) below the regulation point, during a thermal shutdown event or if the converter is disabled. The PGOOD output is valid (See Datasheet)", 6 VCC (power) "VCC (Pin 6): Internally Regulated Supply Rail. Internal power rail regulated off of VIN to power control circuitry. Decouple with a 1uF or larger ceramic capacitor placed as close to the part as possible.", 7 RUN (in) "RUN (Pin 7): Run Pin Comparator Input. A voltage greater than 0.84V will enable the IC. Tie this pin to VIN to enable the IC or connect to an external resistor divider from VIN to provide an accurate undervoltage lockout (See Datasheet)", 8 FB (in) "FB (Pin 8): Feedback Input to Error Amplifier. The resistor divider connected to this pin sets the buck converter output voltage.", 9 NC "NC (Pin 9): No Connect Pin Must be Tied to GND.", 10 MODE (in) "MODE (Pin 10): Logic-Controlled Input to Select Mode of Operation. Forcing this pin high commands high efficiency automatic Burst Mode operation where the buck will automatically transition from PWM operation at heavy load (See Datasheet)", 11 EP (power) "GND (Exposed Pad Pin 11): Backpad Ground Common. This pad must be soldered to the PC board and connected to the ground plane for optimal thermal performance."

## LTC3103IDD#TRPBF
designator U?
1.8 uA Quiescent Current, 15 V, 300 mA Synchronous Step-Down DC/DC Converter, 0.0018 mA Isupply, 10-pin SON (DD-10), -40 to 125 degC, Pb-Free, Tape and Reel; Manufacturer: Linear Technology; PartNumber: LTC3103IDD#TRPBF; Number of Outputs: 1; Topology: Buck; Vin Max(V): 15; Vin Min(V): 2.5; Vout Max(V): 13.8; PackageVersion: Rev. C, 06/2010; PackageReference: DD-10; PackageDescription: 10-Pin Plastic DFN, Body 3 x 3 mm, Pitch 0.5 mm; Supplier 1: Digi-Key; Supplier Part Number 1: LTC3103IDD#TRPBF-ND; Packing: Tape and Reel; RoHS: TRUE; Mounting Technology: Surface Mount; Code_JEDEC: MO-229; ComponentLink1Description: Manufacturer URL; ComponentLink1URL: http://www.linear.com/; ComponentLink2Description: Datasheet; ComponentLink2URL: http://cds.linear.com/docs/en/datasheet/3103f.pdf; ComponentLink3Description: Package Specification; ComponentLink3URL: http://cds.linear.com/docs/en/packaging/DFN_10_05-08-1699.pdf
footprint LT-DD-10_V (SON, 10-Leads, Body 3x3mm, Pitch 0.5mm, Thermal Pad 2.38x1.65mm)
pins: 1 VIN (power) "VIN (Pin 1): Main Supply Pin. Decouple with a 10uF or larger ceramic capacitor. The capacitor should be as close to the part as possible.", 2 SW (power) "SW (Pin 2): Switch Pin Connects to the Inductor. This pin connects to the drains of the internal main and synchronous power MOSFET switches.", 3 BST "BST (Pin 3): Bootstrapped Floating Supply for the High Side Gate Drive. Connect to SW through a 22nF (minimum) capacitor. The capacitor must be connected between BST and SW and be located as close as possible to the part as (See Datasheet)", 4 GND (power) "GND (Pin 4): Power Ground.", 5 PGOOD (oc) "PGOOD (Pin 5): Open-drain output that is pulled to ground when the feedback voltage falls 10% (typical) below the regulation point, during a thermal shutdown event or if the converter is disabled. The PGOOD output is valid (See Datasheet)", 6 VCC (power) "VCC (Pin 6): Internally Regulated Supply Rail. Internal power rail regulated off of VIN to power control circuitry. Decouple with a 1uF or larger ceramic capacitor placed as close to the part as possible.", 7 RUN (in) "RUN (Pin 7): Run Pin Comparator Input. A voltage greater than 0.84V will enable the IC. Tie this pin to VIN to enable the IC or connect to an external resistor divider from VIN to provide an accurate undervoltage lockout (See Datasheet)", 8 FB (in) "FB (Pin 8): Feedback Input to Error Amplifier. The resistor divider connected to this pin sets the buck converter output voltage.", 9 NC "NC (Pin 9): No Connect Pin Must be Tied to GND.", 10 MODE (in) "MODE (Pin 10): Logic-Controlled Input to Select Mode of Operation. Forcing this pin high commands high efficiency automatic Burst Mode operation where the buck will automatically transition from PWM operation at heavy load (See Datasheet)", 11 EP (power) "GND (Exposed Pad Pin 11): Backpad Ground Common. This pad must be soldered to the PC board and connected to the ground plane for optimal thermal performance."

## LTC3103IMSE#PBF
designator U?
1.8 uA Quiescent Current, 15 V, 300 mA Synchronous Step-Down DC/DC Converter, 0.0018 mA Isupply, 10-pin SOP (MSE-10-EDP), -40 to 125 degC, Pb-Free; Manufacturer: Linear Technology; PartNumber: LTC3103IMSE#PBF; Number of Outputs: 1; Topology: Buck; Vin Max(V): 15; Vin Min(V): 2.5; Vout Max(V): 13.8; PackageVersion: Rev. I, 05/2013; PackageReference: MSE-10; PackageDescription: 10-Pin Plastic MSOP, Exposed Die Pad, Body 3 x 3 mm, Pitch 0.5 mm; Supplier 1: Digi-Key; Supplier Part Number 1: LTC3103IMSE#PBF-ND; Supplier 2: Newark; Supplier Part Number 2: 78T3147; RoHS: TRUE; Mounting Technology: Surface Mount; ComponentLink1Description: Manufacturer URL; ComponentLink1URL: http://www.linear.com/; ComponentLink2Description: Datasheet; ComponentLink2URL: http://cds.linear.com/docs/en/datasheet/3103f.pdf; ComponentLink3Description: Package Specification; ComponentLink3URL: http://cds.linear.com/docs/en/packaging/05081664_I_MSE.pdf
footprint LT-MSE-10-EDP_N (SOP, 10-Leads, Body 3.1x3.1mm, Pitch 0.5mm, Thermal Pad 1.88x1.68mm, IPC Medium Density)
footprint LT-MSE-10-EDP_L (SOP, 10-Leads, Body 3.1x3.1mm, Pitch 0.5mm, Thermal Pad 1.88x1.68mm, IPC High Density)
footprint LT-MSE-10-EDP_M (SOP, 10-Leads, Body 3.1x3.1mm, Pitch 0.5mm, Thermal Pad 1.88x1.68mm, IPC Low Density)
pins: 1 VIN (power) "VIN (Pin 1): Main Supply Pin. Decouple with a 10uF or larger ceramic capacitor. The capacitor should be as close to the part as possible.", 2 SW (power) "SW (Pin 2): Switch Pin Connects to the Inductor. This pin connects to the drains of the internal main and synchronous power MOSFET switches.", 3 BST "BST (Pin 3): Bootstrapped Floating Supply for the High Side Gate Drive. Connect to SW through a 22nF (minimum) capacitor. The capacitor must be connected between BST and SW and be located as close as possible to the part as (See Datasheet)", 4 GND (power) "GND (Pin 4): Power Ground.", 5 PGOOD (oc) "PGOOD (Pin 5): Open-drain output that is pulled to ground when the feedback voltage falls 10% (typical) below the regulation point, during a thermal shutdown event or if the converter is disabled. The PGOOD output is valid (See Datasheet)", 6 VCC (power) "VCC (Pin 6): Internally Regulated Supply Rail. Internal power rail regulated off of VIN to power control circuitry. Decouple with a 1uF or larger ceramic capacitor placed as close to the part as possible.", 7 RUN (in) "RUN (Pin 7): Run Pin Comparator Input. A voltage greater than 0.84V will enable the IC. Tie this pin to VIN to enable the IC or connect to an external resistor divider from VIN to provide an accurate undervoltage lockout (See Datasheet)", 8 FB (in) "FB (Pin 8): Feedback Input to Error Amplifier. The resistor divider connected to this pin sets the buck converter output voltage.", 9 NC "NC (Pin 9): No Connect Pin Must be Tied to GND.", 10 MODE (in) "MODE (Pin 10): Logic-Controlled Input to Select Mode of Operation. Forcing this pin high commands high efficiency automatic Burst Mode operation where the buck will automatically transition from PWM operation at heavy load (See Datasheet)", 11 EP (power) "GND (Exposed Pad Pin 11): Backpad Ground Common. This pad must be soldered to the PC board and connected to the ground plane for optimal thermal performance."

## LTC3103IMSE#TRPBF
designator U?
1.8 uA Quiescent Current, 15 V, 300 mA Synchronous Step-Down DC/DC Converter, 0.0018 mA Isupply, 10-pin SOP (MSE-10-EDP), -40 to 125 degC, Pb-Free, Tape and Reel; Manufacturer: Linear Technology; PartNumber: LTC3103IMSE#TRPBF; Number of Outputs: 1; Topology: Buck; Vin Max(V): 15; Vin Min(V): 2.5; Vout Max(V): 13.8; PackageVersion: Rev. I, 05/2013; PackageReference: MSE-10; PackageDescription: 10-Pin Plastic MSOP, Exposed Die Pad, Body 3 x 3 mm, Pitch 0.5 mm; Supplier 1: Digi-Key; Supplier Part Number 1: LTC3103IMSE#TRPBF-ND; Packing: Tape and Reel; RoHS: TRUE; Mounting Technology: Surface Mount; ComponentLink1Description: Manufacturer URL; ComponentLink1URL: http://www.linear.com/; ComponentLink2Description: Datasheet; ComponentLink2URL: http://cds.linear.com/docs/en/datasheet/3103f.pdf; ComponentLink3Description: Package Specification; ComponentLink3URL: http://cds.linear.com/docs/en/packaging/05081664_I_MSE.pdf
footprint LT-MSE-10-EDP_N (SOP, 10-Leads, Body 3.1x3.1mm, Pitch 0.5mm, Thermal Pad 1.88x1.68mm, IPC Medium Density)
footprint LT-MSE-10-EDP_L (SOP, 10-Leads, Body 3.1x3.1mm, Pitch 0.5mm, Thermal Pad 1.88x1.68mm, IPC High Density)
footprint LT-MSE-10-EDP_M (SOP, 10-Leads, Body 3.1x3.1mm, Pitch 0.5mm, Thermal Pad 1.88x1.68mm, IPC Low Density)
pins: 1 VIN (power) "VIN (Pin 1): Main Supply Pin. Decouple with a 10uF or larger ceramic capacitor. The capacitor should be as close to the part as possible.", 2 SW (power) "SW (Pin 2): Switch Pin Connects to the Inductor. This pin connects to the drains of the internal main and synchronous power MOSFET switches.", 3 BST "BST (Pin 3): Bootstrapped Floating Supply for the High Side Gate Drive. Connect to SW through a 22nF (minimum) capacitor. The capacitor must be connected between BST and SW and be located as close as possible to the part as (See Datasheet)", 4 GND (power) "GND (Pin 4): Power Ground.", 5 PGOOD (oc) "PGOOD (Pin 5): Open-drain output that is pulled to ground when the feedback voltage falls 10% (typical) below the regulation point, during a thermal shutdown event or if the converter is disabled. The PGOOD output is valid (See Datasheet)", 6 VCC (power) "VCC (Pin 6): Internally Regulated Supply Rail. Internal power rail regulated off of VIN to power control circuitry. Decouple with a 1uF or larger ceramic capacitor placed as close to the part as possible.", 7 RUN (in) "RUN (Pin 7): Run Pin Comparator Input. A voltage greater than 0.84V will enable the IC. Tie this pin to VIN to enable the IC or connect to an external resistor divider from VIN to provide an accurate undervoltage lockout (See Datasheet)", 8 FB (in) "FB (Pin 8): Feedback Input to Error Amplifier. The resistor divider connected to this pin sets the buck converter output voltage.", 9 NC "NC (Pin 9): No Connect Pin Must be Tied to GND.", 10 MODE (in) "MODE (Pin 10): Logic-Controlled Input to Select Mode of Operation. Forcing this pin high commands high efficiency automatic Burst Mode operation where the buck will automatically transition from PWM operation at heavy load (See Datasheet)", 11 EP (power) "GND (Exposed Pad Pin 11): Backpad Ground Common. This pad must be soldered to the PC board and connected to the ground plane for optimal thermal performance."